# Altium schematic symbol library Symbols.SCHLIB: 22 symbols
Pins are listed as number, name and electrical type; pins without a type are passive.

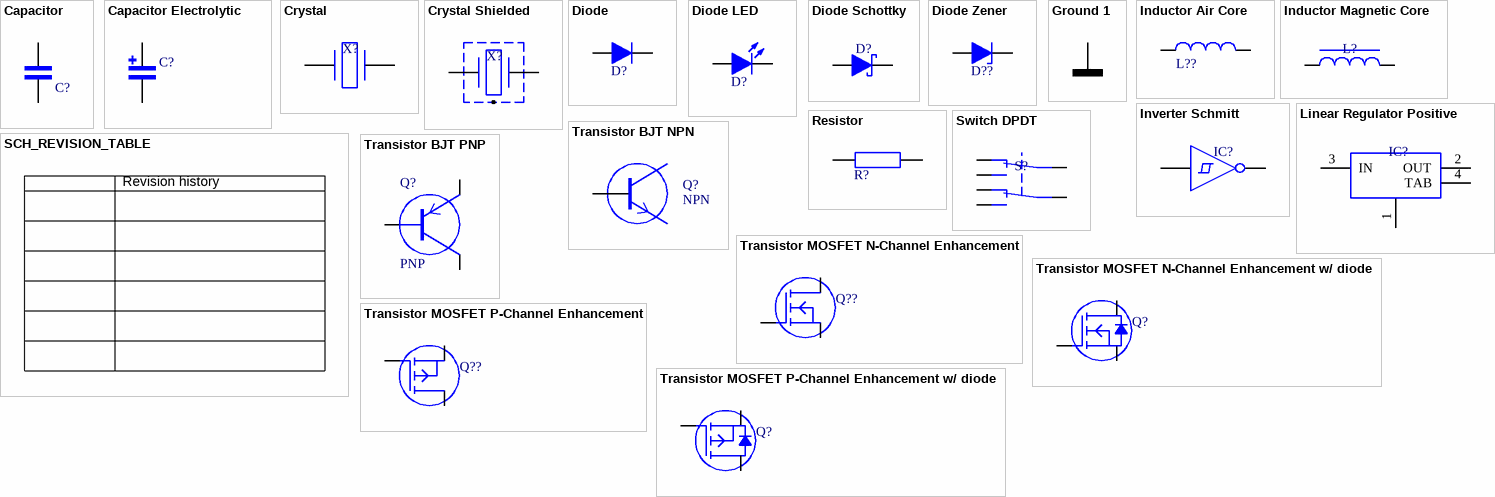
[diagram p0: symbols Capacitor to Transistor MOSFET P-Channel Enhancement w/ diode]

## Capacitor
designator C?  (value not drawn)
General symbol for a capacitor
pins: 1, 2

## Capacitor Electrolytic
designator C?, comment Capacitor  (value not drawn)
General symbol for a polarized capacitor
pins: 1, 2

## Crystal
designator X?  (value not drawn)
General symbol for a piëzo electric crystal
pins: 1, 2

## Crystal Shielded
designator X?, comment Crystal  (value not drawn)
General symbol for a shielded crystal
pins: 1, 2, 3 GND, 4 GND

## Diode
designator D?  (value not drawn)
General symbol for a silicon diode
pins: A "Anode", K "Cathode"

## Diode LED
designator D?  (value not drawn)
General symbol for a single LED
pins: A "Anode", K "Cathode"

## Diode Schottky
designator D?, comment Schottky  (value not drawn)
General symbol for a Schottky type diode
pins: A "Anode", K "Cathode"

## Diode Zener
designator D??, comment Zener  (value not drawn)
General symbol for a zener diode
pins: A "Anode", K "Cathode"

## Ground 1
designator GND, comment GND  (value not drawn)  (net tie, no BOM)
Ground symbol
pins: GND (power)

## Inductor Air Core
designator L??, comment Inductor  (value not drawn)
General symbol for an aircore inductor
pins: 1, 2

## Inductor Magnetic Core
designator L?, comment Inductor  (value not drawn)
General symbol for a inductor with a magnetic core
pins: 1, 2

## Inverter Schmitt
designator IC?, comment Inverter  (value not drawn)
Inverter Schmitt
pins: 4, 5

## Linear Regulator Positive
designator IC?, comment Regulator  (value not drawn)
General symbol for a linear regulator
pins: 1 ADJ, 2 OUT, 3 IN, 4 TAB

## Resistor
designator R?  (value not drawn)
General symbol for a resistor
pins: 1, 2

## SCH_REVISION_TABLE
designator TABLE, comment Revision history  (value not drawn)  (graphical)

## Switch DPDT
designator S?  (value not drawn)
Supplier 1: Mouser; Supplier Part Number 1: *
pins: 1 P1T1, 2 P1T2, 3 P1, 4 P2T1, 5 P2T2, 6 P2

## Transistor BJT NPN
designator Q?, comment NPN
General symbol for a bipolar NPN transistor
pins: B, C, E

## Transistor BJT PNP
designator Q?, comment PNP
General symbol for a bipolar PNP transistor
pins: B, C, E

## Transistor MOSFET N-Channel Enhancement
designator Q??, comment NMOS  (value not drawn)
General symbol for a N-Channel enhancement MOSFET
pins: D "Drain", G "Gate", S "Source"

## Transistor MOSFET N-Channel Enhancement w/ diode
designator Q?, comment NMOS  (value not drawn)
General symbol for a N-Channel enhancement MOSFET with diode
pins: D "Drain", G "Gate", S "Source"

## Transistor MOSFET P-Channel Enhancement
designator Q??, comment PMOS  (value not drawn)
General symbol for a P-Channel enhancement MOSFET
pins: D "Drain", G "Gate", S "Source"

## Transistor MOSFET P-Channel Enhancement w/ diode
designator Q?, comment PMOS  (value not drawn)
General symbol for a P-Channel enhancement MOSFET with diode
pins: D "Drain", G "Gate", S "Source"